# Altium schematic symbol library FPGA_Xilinx_Virtex5.SchLib: 41 symbols (part 16 of 17)
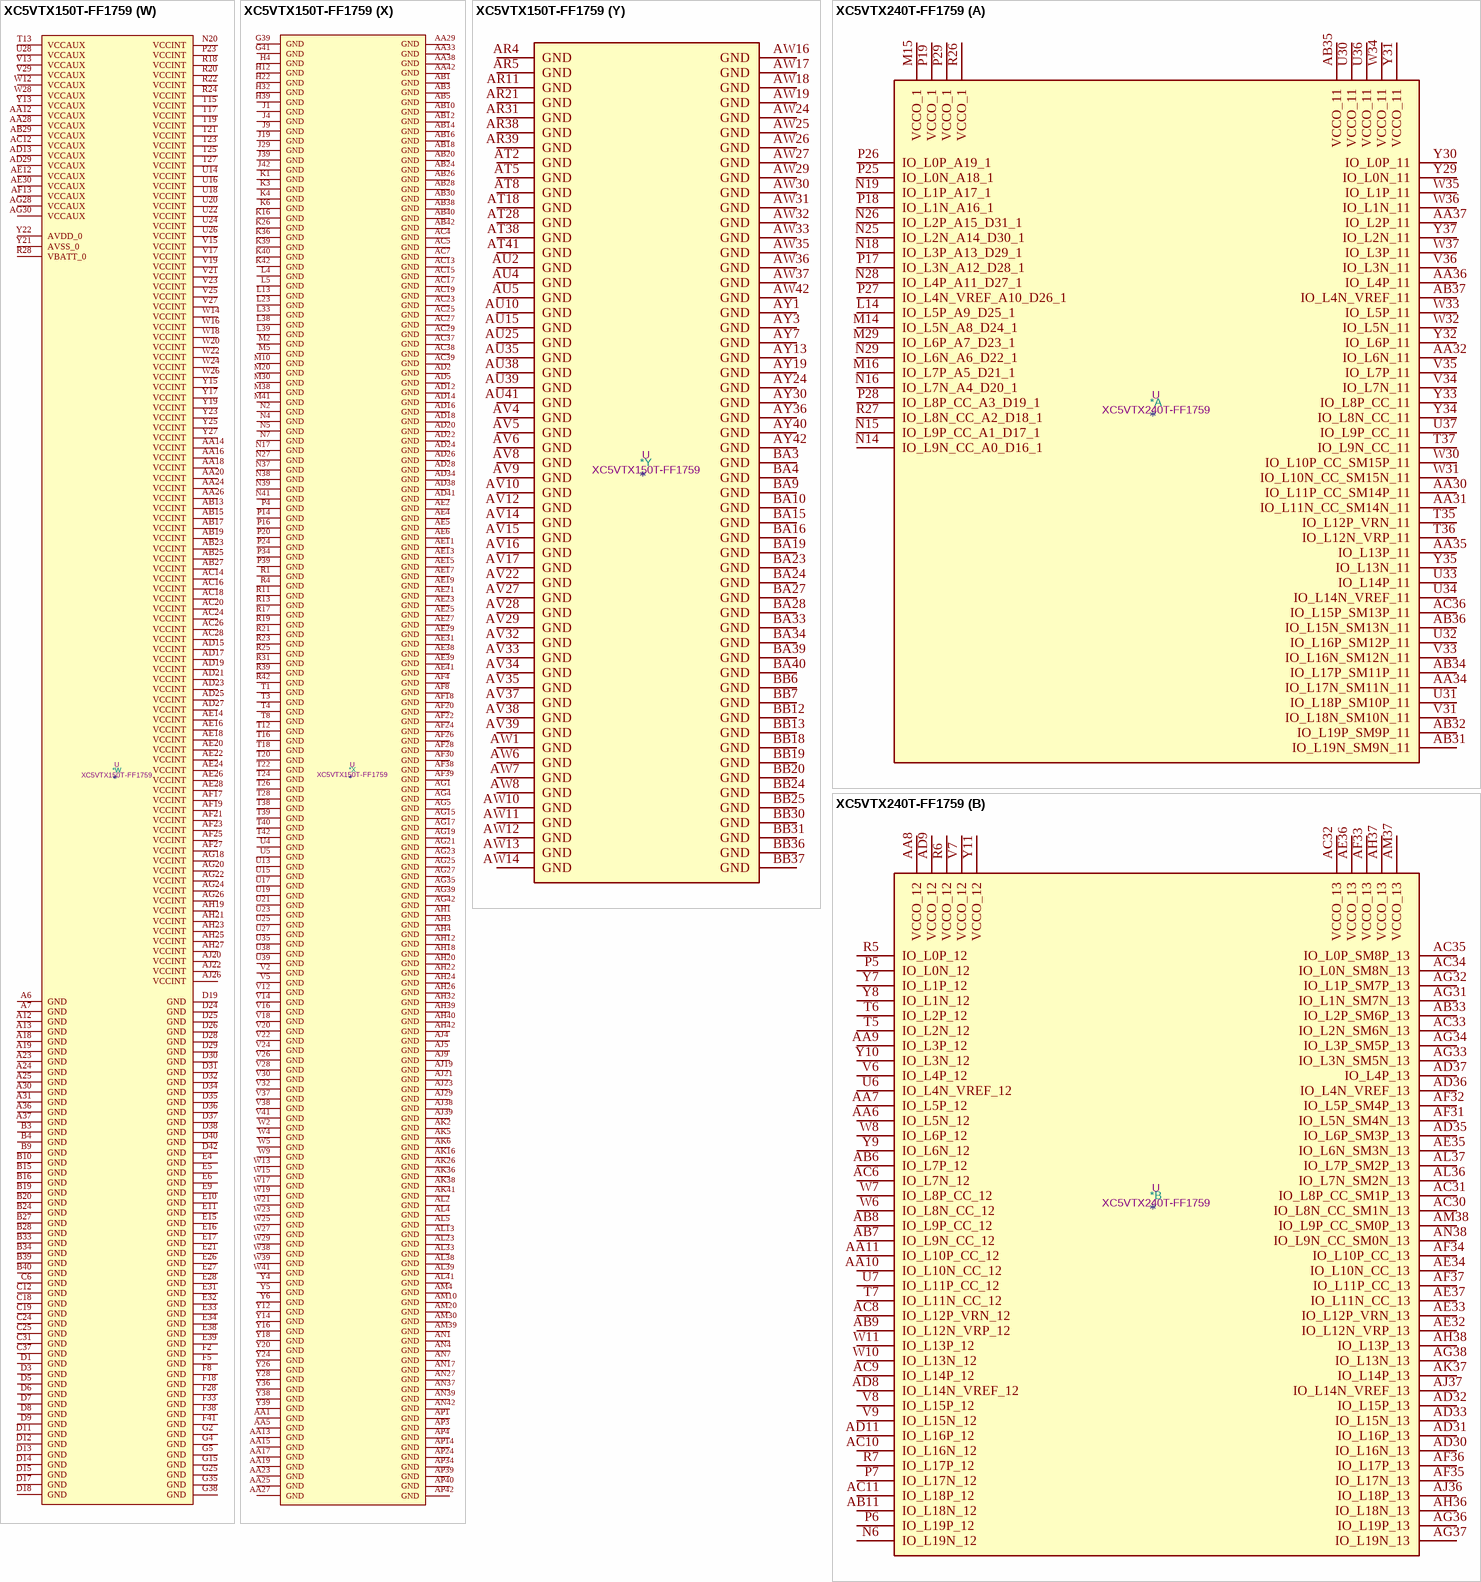
[diagram p152: symbols XC5VTX150T-FF1759 to XC5VTX240T-FF1759]

## XC5VTX150T-FF1759
designator *  value XC5VTX150T-FF1759  Reference: U
Virtex 5 TXT 150 XC5VTX150T-FF1759; ki_keywords: FPGA; Description_: Virtex 5 TXT 150 XC5VTX150T-FF1759
part A pins: AA30 IO_L11P_CC_SM14P_11, AA31 IO_L11N_CC_SM14N_11, AA32 IO_L6N_11, AA34 IO_L17N_SM11N_11, AA35 IO_L13P_11, AA36 IO_L4P_11, AA37 IO_L2P_11, AB31 IO_L19N_SM9N_11, AB32 IO_L19P_SM9P_11, AB34 IO_L17P_SM11P_11, AB35 VCCO_11, AB36 IO_L15N_SM13N_11, AB37 IO_L4N_VREF_11, AC36 IO_L15P_SM13P_11, L14 IO_L5P_A9_D25_1, M14 IO_L5N_A8_D24_1, M15 VCCO_1, M16 IO_L7P_A5_D21_1, M29 IO_L6P_A7_D23_1, N14 IO_L9N_CC_A0_D16_1, N15 IO_L9P_CC_A1_D17_1, N16 IO_L7N_A4_D20_1, N18 IO_L3P_A13_D29_1, N19 IO_L1P_A17_1, N25 IO_L2N_A14_D30_1, N26 IO_L2P_A15_D31_1, N28 IO_L4P_A11_D27_1, N29 IO_L6N_A6_D22_1, P17 IO_L3N_A12_D28_1, P18 IO_L1N_A16_1, P19 VCCO_1, P25 IO_L0N_A18_1, P26 IO_L0P_A19_1, P27 IO_L4N_VREF_A10_D26_1, P28 IO_L8P_CC_A3_D19_1, P29 VCCO_1, R26 VCCO_1, R27 IO_L8N_CC_A2_D18_1, T35 IO_L12P_VRN_11, T36 IO_L12N_VRP_11, T37 IO_L9N_CC_11, U30 VCCO_11, U31 IO_L18P_SM10P_11, U32 IO_L16P_SM12P_11, U33 IO_L14P_11, U34 IO_L14N_VREF_11, U36 VCCO_11, U37 IO_L9P_CC_11, V31 IO_L18N_SM10N_11, V33 IO_L16N_SM12N_11, V34 IO_L7N_11, V35 IO_L7P_11, V36 IO_L3N_11, W30 IO_L10P_CC_SM15P_11, W31 IO_L10N_CC_SM15N_11, W32 IO_L5N_11, W33 IO_L5P_11, W34 VCCO_11, W35 IO_L1P_11, W36 IO_L1N_11, W37 IO_L3P_11, Y29 IO_L0N_11, Y30 IO_L0P_11, Y31 VCCO_11, Y32 IO_L6P_11, Y33 IO_L8P_CC_11, Y34 IO_L8N_CC_11, Y35 IO_L13N_11, Y37 IO_L2N_11
part B pins: AA6 IO_L5N_12, AA7 IO_L5P_12, AA8 VCCO_12, AA9 IO_L3P_12, AA10 IO_L10N_CC_12, AA11 IO_L10P_CC_12, AB6 IO_L7P_12, AB7 IO_L9N_CC_12, AB8 IO_L9P_CC_12, AB9 IO_L12N_VRP_12, AB11 IO_L18N_12, AB33 IO_L2P_SM6P_13, AC6 IO_L7N_12, AC8 IO_L12P_VRN_12, AC9 IO_L14P_12, AC10 IO_L16N_12, AC11 IO_L18P_12, AC30 IO_L8N_CC_SM1N_13, AC31 IO_L8P_CC_SM1P_13, AC32 VCCO_13, AC33 IO_L2N_SM6N_13, AC34 IO_L0N_SM8N_13, AC35 IO_L0P_SM8P_13, AD8 IO_L14N_VREF_12, AD9 VCCO_12, AD11 IO_L16P_12, AD30 IO_L16N_13, AD31 IO_L16P_13, AD32 IO_L15P_13, AD33 IO_L15N_13, AD35 IO_L6P_SM3P_13, AD36 IO_L4N_VREF_13, AD37 IO_L4P_13, AE32 IO_L12N_VRP_13, AE33 IO_L12P_VRN_13, AE34 IO_L10N_CC_13, AE35 IO_L6N_SM3N_13, AE36 VCCO_13, AE37 IO_L11N_CC_13, AF31 IO_L5N_SM4N_13, AF32 IO_L5P_SM4P_13, AF33 VCCO_13, AF34 IO_L10P_CC_13, AF35 IO_L17N_13, AF36 IO_L17P_13, AF37 IO_L11P_CC_13, AG31 IO_L1N_SM7N_13, AG32 IO_L1P_SM7P_13, AG33 IO_L3N_SM5N_13, AG34 IO_L3P_SM5P_13, AG36 IO_L19P_13, AG37 IO_L19N_13, AG38 IO_L13N_13, AH36 IO_L18N_13, AH37 VCCO_13, AH38 IO_L13P_13, AJ36 IO_L18P_13, AJ37 IO_L14N_VREF_13, AK37 IO_L14P_13, AL36 IO_L7N_SM2N_13, AL37 IO_L7P_SM2P_13, AM37 VCCO_13, AM38 IO_L9P_CC_SM0P_13, AN38 IO_L9N_CC_SM0N_13, N6 IO_L19N_12, P5 IO_L0N_12, P6 IO_L19P_12, P7 IO_L17N_12, R5 IO_L0P_12, R6 VCCO_12, R7 IO_L17P_12, T5 IO_L2N_12, T6 IO_L2P_12, T7 IO_L11N_CC_12, U6 IO_L4N_VREF_12, U7 IO_L11P_CC_12, V6 IO_L4P_12, V7 VCCO_12, V8 IO_L15P_12, V9 IO_L15N_12, W6 IO_L8N_CC_12, W7 IO_L8P_CC_12, W8 IO_L6P_12, W10 IO_L13N_12, W11 IO_L13P_12, Y7 IO_L1P_12, Y8 IO_L1N_12, Y9 IO_L6N_12, Y10 IO_L3N_12, Y11 VCCO_12
part C pins: AD6 IO_L1N_14, AD7 IO_L1P_14, AD10 IO_L17P_14, AE7 VCCO_14, AE8 IO_L3P_14, AE9 IO_L16N_14, AE10 IO_L17N_14, AF5 IO_L5P_14, AF6 IO_L5N_14, AF7 IO_L3N_14, AF9 IO_L16P_14, AF10 IO_L8P_CC_14, AF11 IO_L2P_14, AF12 IO_L0N_14, AG6 IO_L7P_14, AG7 IO_L9P_CC_14, AG8 IO_L10P_CC_14, AG9 IO_L8N_CC_14, AG10 VCCO_14, AG11 IO_L2N_14, AG12 IO_L0P_14, AH5 IO_L7N_14, AH6 IO_L9N_CC_14, AH7 VCCO_14, AH8 IO_L10N_CC_14, AH9 IO_L13P_14, AH10 IO_L4N_VREF_14, AH11 IO_L4P_14, AH17 VCCO_2, AJ6 IO_L12P_VRN_14, AJ7 IO_L12N_VRP_14, AJ8 IO_L13N_14, AJ17 IO_L0P_CC_RS1_2, AJ18 IO_L2N_A22_2, AK7 IO_L14P_14, AK8 IO_L11P_CC_14, AK9 IO_L6P_14, AK17 IO_L0N_CC_RS0_2, AK18 IO_L2P_A23_2, AK19 IO_L8N_D2_FS2_2, AK27 IO_L1N_CC_A24_2, AK28 IO_L1P_CC_A25_2, AL6 IO_L14N_VREF_14, AL7 IO_L11N_CC_14, AL8 VCCO_14, AL9 IO_L6N_14, AL17 IO_L4P_FCS_B_2, AL18 VCCO_2, AL19 IO_L8P_D3_2, AL27 IO_L3P_A21_2, AL28 VCCO_2, AM5 IO_L18P_14, AM6 IO_L19P_14, AM7 IO_L19N_14, AM17 IO_L4N_VREF_FOE_B_MOSI_2, AM18 IO_L6P_D7_2, AM19 IO_L6N_D6_2, AM27 IO_L3N_A20_2, AN5 IO_L18N_14, AN6 VCCO_14, AN26 IO_L7N_D4_2, AP5 IO_L15P_14, AP6 IO_L15N_14, AP25 IO_L9P_D1_FS1_2, AP26 IO_L7P_D5_2, AP27 IO_L5N_CSO_B_2, AR25 IO_L9N_D0_FS0_2, AR26 VCCO_2, AR27 IO_L5P_FWE_B_2
part D pins: E7 IO_L3P_24, E8 IO_L3N_24, F6 IO_L5N_24, F7 VCCO_24, G6 IO_L5P_24, G7 IO_L1P_24, G8 IO_L1N_24, G37 IO_L4P_23, H5 IO_L7N_24, H6 IO_L7P_24, H7 VCCO_24, H8 IO_L9N_CC_24, H34 IO_L0N_23, H35 IO_L2P_23, H36 IO_L2N_23, H37 VCCO_23, H38 IO_L4N_VREF_23, J5 IO_L14N_VREF_24, J6 IO_L14P_24, J7 IO_L18P_24, J8 IO_L9P_CC_24, J33 IO_L0P_23, J34 VCCO_23, J35 IO_L15N_23, J36 IO_L15P_23, J37 IO_L8P_CC_23, J38 IO_L8N_CC_23, K5 IO_L4N_VREF_24, K7 IO_L19P_24, K8 IO_L18N_24, K9 IO_L12P_VRN_24, K33 IO_L6N_23, K34 IO_L6P_23, K35 IO_L19N_23, K37 IO_L17P_23, K38 IO_L17N_23, L6 IO_L4P_24, L7 IO_L19N_24, L8 VCCO_24, L9 IO_L12N_VRP_24, L34 IO_L19P_23, L35 IO_L12P_VRN_23, L36 IO_L12N_VRP_23, L37 IO_L16N_23, M6 IO_L17N_24, M7 IO_L17P_24, M8 IO_L15P_24, M9 IO_L16N_24, M34 IO_L14N_VREF_23, M35 VCCO_23, M36 IO_L10N_CC_23, M37 IO_L16P_23, N8 IO_L15N_24, N9 IO_L16P_24, N33 IO_L11N_CC_23, N34 IO_L14P_23, N35 IO_L7N_23, N36 IO_L10P_CC_23, P8 IO_L11N_CC_24, P9 VCCO_24, P10 IO_L10P_CC_24, P33 IO_L11P_CC_23, P35 IO_L7P_23, P36 IO_L5N_23, P37 IO_L1N_23, P38 IO_L3N_23, R8 IO_L8P_CC_24, R9 IO_L11P_CC_24, R10 IO_L10N_CC_24, R32 IO_L13N_23, R33 IO_L13P_23, R34 IO_L9P_CC_23, R35 IO_L5P_23, R36 VCCO_23, R37 IO_L1P_23, R38 IO_L3P_23, T9 IO_L8N_CC_24, T10 IO_L13N_24, T11 IO_L13P_24, T31 IO_L18P_23, T32 IO_L18N_23, T33 VCCO_23, T34 IO_L9N_CC_23, U8 IO_L6N_24, U9 IO_L6P_24, U10 VCCO_24, U11 IO_L2N_24, U12 IO_L0N_24, V10 IO_L2P_24, V11 IO_L0P_24
part E pins: AH33 IO_L10N_CC_25, AH34 IO_L10P_CC_25, AH35 IO_L12P_VRN_25, AJ10 IO_L4P_26, AJ11 IO_L4N_VREF_26, AJ12 IO_L9P_CC_26, AJ31 IO_L3P_25, AJ32 IO_L3N_25, AJ33 IO_L0P_25, AJ34 VCCO_25, AJ35 IO_L12N_VRP_25, AK10 IO_L2N_26, AK11 VCCO_26, AK12 IO_L9N_CC_26, AK32 IO_L13P_25, AK33 IO_L13N_25, AK34 IO_L0N_25, AK35 IO_L9N_CC_25, AL10 IO_L2P_26, AL11 IO_L7N_26, AL12 IO_L10N_CC_26, AL31 IO_L19P_25, AL32 IO_L19N_25, AL34 IO_L9P_CC_25, AL35 IO_L18P_25, AM8 IO_L17N_26, AM9 IO_L17P_26, AM11 IO_L7P_26, AM12 IO_L10P_CC_26, AM13 IO_L18P_26, AM31 IO_L17P_25, AM32 IO_L17N_25, AM33 IO_L8N_CC_25, AM34 IO_L6P_25, AM35 VCCO_25, AM36 IO_L18N_25, AN8 IO_L15N_26, AN9 IO_L6P_26, AN10 IO_L6N_26, AN11 IO_L3N_26, AN12 VCCO_26, AN13 IO_L18N_26, AN31 IO_L15P_25, AN32 VCCO_25, AN33 IO_L8P_CC_25, AN34 IO_L6N_25, AN35 IO_L16N_25, AN36 IO_L16P_25, AP7 IO_L19N_26, AP8 IO_L15P_26, AP9 VCCO_26, AP10 IO_L3P_26, AP11 IO_L5P_26, AP12 IO_L5N_26, AP13 IO_L16P_26, AP31 IO_L15N_25, AP32 IO_L11P_CC_25, AP33 IO_L11N_CC_25, AP35 IO_L7N_25, AP36 IO_L7P_25, AP37 IO_L14P_25, AP38 IO_L14N_VREF_25, AR6 IO_L19P_26, AR7 IO_L8P_CC_26, AR8 IO_L0P_26, AR9 IO_L0N_26, AR10 IO_L1P_26, AR12 IO_L16N_26, AR35 IO_L4P_25, AR36 VCCO_25, AR37 IO_L5N_25, AT6 IO_L13N_26, AT7 IO_L8N_CC_26, AT9 IO_L1N_26, AT10 IO_L12N_VRP_26, AT11 VCCO_26, AT35 IO_L4N_VREF_25, AT36 IO_L1P_25, AT37 IO_L5P_25, AU6 IO_L13P_26, AU7 VCCO_26, AU8 IO_L11P_CC_26, AU9 IO_L12P_VRN_26, AU11 IO_L14P_26, AU36 IO_L2N_25, AU37 IO_L1N_25, AV7 IO_L11N_CC_26, AV11 IO_L14N_VREF_26, AV36 IO_L2P_25
part F pins: E12 IO_L4P_28, E13 IO_L4N_VREF_28, E14 IO_L15P_28, E29 IO_L16P_27, E30 IO_L14N_VREF_27, E35 IO_L4N_VREF_27, E36 IO_L4P_27, E37 IO_L6P_27, F9 IO_L0N_28, F10 IO_L0P_28, F11 IO_L2N_28, F12 IO_L11N_CC_28, F13 VCCO_28, F14 IO_L15N_28, F15 IO_L17P_28, F29 IO_L16N_27, F30 IO_L14P_27, F31 IO_L12N_VRP_27, F32 IO_L5N_27, F34 IO_L3P_27, F35 IO_L2P_27, F36 VCCO_27, F37 IO_L6N_27, G9 IO_L3P_28, G10 VCCO_28, G11 IO_L2P_28, G12 IO_L11P_CC_28, G13 IO_L13N_28, G14 IO_L17N_28, G29 IO_L18P_27, G30 VCCO_27, G31 IO_L12P_VRN_27, G32 IO_L5P_27, G33 VCCO_27, G34 IO_L3N_27, G36 IO_L2N_27, H9 IO_L3N_28, H10 IO_L1N_28, H11 IO_L8P_CC_28, H13 IO_L13P_28, H14 IO_L19P_28, H15 IO_L19N_28, H29 IO_L18N_27, H30 IO_L10N_CC_27, H31 IO_L7P_27, H33 IO_L1N_27, J10 IO_L5P_28, J11 IO_L1P_28, J12 IO_L8N_CC_28, J13 IO_L6N_28, J30 IO_L10P_CC_27, J31 IO_L7N_27, J32 IO_L1P_27, K10 IO_L5N_28, K11 VCCO_28, K12 IO_L7N_28, K13 IO_L7P_28, K14 IO_L6P_28, K29 IO_L9P_CC_27, K30 IO_L0N_27, K31 VCCO_27, K32 IO_L8N_CC_27, L10 IO_L10P_CC_28, L11 IO_L10N_CC_28, L12 IO_L9P_CC_28, L29 IO_L9N_CC_27, L30 IO_L0P_27, L31 IO_L8P_CC_27, L32 IO_L11N_CC_27, M11 IO_L14P_28, M12 IO_L9N_CC_28, M13 IO_L12N_VRP_28, M31 IO_L13P_27, M32 IO_L13N_27, M33 IO_L11P_CC_27, N10 IO_L14N_VREF_28, N11 IO_L16N_28, N12 VCCO_28, N13 IO_L12P_VRN_28, N30 IO_L15N_27, N31 IO_L15P_27, N32 VCCO_27, P11 IO_L16P_28, P12 IO_L18P_28, P30 IO_L19P_27, P31 IO_L17P_27, P32 IO_L17N_27, R12 IO_L18N_28, R30 IO_L19N_27
part G pins: AH29 IO_L0N_29, AH30 IO_L0P_29, AH31 IO_L2P_29, AJ30 IO_L2N_29, AK29 IO_L4P_29, AK30 IO_L4N_VREF_29, AK31 VCCO_29, AL29 IO_L17P_29, AL30 IO_L17N_29, AM28 IO_L9P_CC_29, AM29 IO_L15P_29, AN28 IO_L1P_29, AN29 IO_L9N_CC_29, AN30 IO_L15N_29, AP28 IO_L1N_29, AP29 VCCO_29, AP30 IO_L12N_VRP_29, AR28 IO_L10P_CC_29, AR29 IO_L10N_CC_29, AR30 IO_L12P_VRN_29, AR32 IO_L13P_29, AR33 IO_L8N_CC_29, AR34 IO_L8P_CC_29, AT25 IO_L3N_29, AT26 IO_L3P_29, AT27 IO_L7N_29, AT29 IO_L14P_29, AT30 IO_L19P_29, AT31 IO_L19N_29, AT32 IO_L13N_29, AT33 VCCO_29, AT34 IO_L6N_29, AU26 VCCO_29, AU27 IO_L7P_29, AU28 IO_L14N_VREF_29, AU29 IO_L16P_29, AU30 VCCO_29, AU31 IO_L18N_29, AU32 IO_L11P_CC_29, AU33 IO_L11N_CC_29, AU34 IO_L6P_29, AV25 IO_L5N_29, AV26 IO_L5P_29, AV30 IO_L16N_29, AV31 IO_L18P_29, J14 VCCO_3, J15 IO_L2P_GC_VRN_3, J16 IO_L2N_GC_VRP_3, K15 IO_L4N_GC_VREF_3, K27 IO_L7P_GC_3, K28 IO_L7N_GC_3, L15 IO_L4P_GC_3, L16 IO_L8P_GC_3, L17 IO_L8N_GC_3, L18 VCCO_3, L19 IO_L0P_CC_GC_3, L25 IO_L3N_GC_3, L26 IO_L5P_GC_3, L27 IO_L5N_GC_3, L28 VCCO_3, M17 IO_L6P_GC_3, M18 IO_L6N_GC_3, M19 IO_L0N_CC_GC_3, M24 IO_L1N_CC_GC_3, M25 VCCO_3, M26 IO_L3P_GC_3, M27 IO_L9N_GC_3, M28 IO_L9P_GC_3, N24 IO_L1P_CC_GC_3
part H pins: AG13 IO_L3N_30, AH13 IO_L5P_30, AH14 IO_L3P_30, AH15 IO_L1N_30, AJ13 IO_L5N_30, AJ14 VCCO_30, AJ15 IO_L1P_30, AJ24 VCCO_4, AJ25 IO_L4P_GC_4, AK13 IO_L7P_30, AK14 IO_L7N_30, AK15 IO_L19P_30, AK20 IO_L9P_CC_GC_4, AK21 VCCO_4, AK23 IO_L8P_CC_GC_4, AK24 IO_L8N_CC_GC_4, AK25 IO_L4N_GC_VREF_4, AL14 IO_L16N_30, AL15 IO_L19N_30, AL16 IO_L4P_30, AL20 IO_L9N_CC_GC_4, AL21 IO_L7P_GC_VRN_4, AL24 IO_L6N_GC_4, AL25 IO_L6P_GC_4, AL26 IO_L0P_GC_D15_4, AM14 IO_L16P_30, AM15 VCCO_30, AM16 IO_L4N_VREF_30, AM21 IO_L7N_GC_VRP_4, AM24 IO_L2N_GC_D10_4, AM25 VCCO_4, AM26 IO_L0N_GC_D14_4, AN14 IO_L10P_CC_30, AN15 IO_L10N_CC_30, AN16 IO_L11P_CC_30, AN18 IO_L2P_30, AN19 IO_L1N_GC_D12_4, AN20 IO_L1P_GC_D13_4, AN25 IO_L2P_GC_D11_4, AP15 IO_L14P_30, AP16 IO_L15N_30, AP17 IO_L11N_CC_30, AP18 IO_L2N_30, AP19 VCCO_4, AP20 IO_L5N_GC_4, AP21 IO_L5P_GC_4, AR13 IO_L9N_CC_30, AR14 IO_L14N_VREF_30, AR15 IO_L15P_30, AR16 VCCO_30, AR17 IO_L8N_CC_30, AR18 IO_L0N_30, AR19 IO_L0P_30, AR20 IO_L3P_GC_D9_4, AT12 IO_L9P_CC_30, AT13 VCCO_30, AT14 IO_L12N_VRP_30, AT15 IO_L17N_30, AT16 IO_L13P_30, AT17 IO_L8P_CC_30, AT20 IO_L3N_GC_D8_4, AU12 IO_L18P_30, AU13 IO_L12P_VRN_30, AU14 IO_L17P_30, AU16 IO_L13N_30, AU17 IO_L6N_30, AU18 IO_L6P_30, AV13 IO_L18N_30
part I pins: AK22 IO_L12N_VRP_6, AL22 IO_L12P_VRN_6, AM22 IO_L10N_CC_6, AM23 IO_L8P_CC_6, AN21 IO_L10P_CC_6, AN22 VCCO_6, AN23 IO_L13P_6, AN24 IO_L8N_CC_6, AP22 IO_L17N_6, AP23 IO_L13N_6, AR22 IO_L17P_6, AR23 IO_L15P_6, AR24 IO_L0P_6, AT19 IO_L7P_6, AT21 IO_L19N_6, AT22 IO_L15N_6, AT23 VCCO_6, AT24 IO_L0N_6, AU19 IO_L7N_6, AU20 VCCO_6, AU21 IO_L19P_6, AU22 IO_L18N_6, AU23 IO_L6N_6, AU24 IO_L2N_6, AV18 IO_L1P_6, AV19 IO_L1N_6, AV20 IO_L9P_CC_6, AV21 IO_L18P_6, AV23 IO_L6P_6, AV24 IO_L2P_6, AW20 IO_L9N_CC_6, AW21 IO_L16P_6, AW22 IO_L16N_6, AW23 IO_L11P_CC_6, AY20 IO_L14N_VREF_6, AY21 VCCO_6, AY22 IO_L5N_6, AY23 IO_L11N_CC_6, BA20 IO_L14P_6, BA21 IO_L5P_6, BA22 IO_L3P_6, BB21 IO_L3N_6, BB22 IO_L4P_6, BB23 IO_L4N_VREF_6, E18 IO_L14N_VREF_5, E19 IO_L14P_5, E20 IO_L1P_5, F16 IO_L16N_5, F17 IO_L16P_5, F19 IO_L5P_5, F20 IO_L1N_5, F26 IO_L8P_CC_5, F27 IO_L13N_5, G16 IO_L18N_5, G17 IO_L7N_5, G18 IO_L7P_5, G19 IO_L5N_5, G20 VCCO_5, G24 IO_L6P_5, G26 IO_L8N_CC_5, G27 IO_L13P_5, G28 IO_L17N_5, H16 IO_L18P_5, H17 VCCO_5, H18 IO_L12N_VRP_5, H19 IO_L3N_5, H20 IO_L3P_5, H23 IO_L4P_5, H24 IO_L4N_VREF_5, H25 IO_L6N_5, H26 IO_L15N_5, H27 VCCO_5, H28 IO_L17P_5, J17 IO_L9P_CC_5, J18 IO_L12P_VRN_5, J23 IO_L0N_5, J24 VCCO_5, J25 IO_L11N_CC_5, J26 IO_L15P_5, J27 IO_L19N_5, J28 IO_L19P_5, K17 IO_L9N_CC_5, K18 IO_L10P_CC_5, K19 IO_L10N_CC_5, K23 IO_L0P_5, K24 IO_L2P_5, K25 IO_L11P_CC_5, L24 IO_L2N_5
part J pins: A20 IO_L14P_7, A21 IO_L14N_VREF_7, A22 IO_L11N_CC_7, B21 IO_L11P_CC_7, B22 IO_L8P_CC_7, B23 IO_L8N_CC_7, C20 IO_L12N_VRP_7, C21 IO_L6P_7, C22 VCCO_7, C23 IO_L4N_VREF_7, D20 IO_L12P_VRN_7, D21 IO_L6N_7, D22 IO_L4P_7, D23 IO_L3P_7, E22 IO_L3N_7, E23 IO_L17N_7, E24 IO_L17P_7, E25 IO_L19N_7, F21 IO_L9P_CC_7, F22 IO_L5P_7, F23 VCCO_7, F24 IO_L13N_7, F25 IO_L19P_7, G21 IO_L9N_CC_7, G22 IO_L5N_7, G23 IO_L13P_7, H21 IO_L10N_CC_7, J20 IO_L10P_CC_7, J21 IO_L0N_7, J22 IO_L0P_7, K20 IO_L16N_7, K21 VCCO_7, K22 IO_L7P_7, L20 IO_L16P_7, L21 IO_L7N_7, L22 IO_L2N_7, M21 IO_L1N_7, M22 IO_L2P_7, M23 IO_L15P_7, N21 IO_L1P_7, N22 VCCO_7, N23 IO_L15N_7, P21 IO_L18P_7, P22 IO_L18N_7
part K pins: AA2 MGTTXP1_112, AA41 MGTTXP1_111, T2 MGTTXP0_112, T41 MGTTXP0_111, U1 MGTRXP0_112, U2 MGTTXN0_112, U41 MGTTXN0_111, U42 MGTRXP0_111, V1 MGTRXN0_112, V3 MGTREFCLKN_112, V4 MGTREFCLKP_112, V39 MGTREFCLKP_111, V40 MGTREFCLKN_111, V42 MGTRXN0_111, W1 MGTRXN1_112, W42 MGTRXN1_111, Y1 MGTRXP1_112, Y2 MGTTXN1_112, Y41 MGTTXN1_111, Y42 MGTRXP1_111
part L pins: AB2 MGTTXP0_114, AB41 MGTTXP0_113, AC1 MGTRXP0_114, AC2 MGTTXN0_114, AC41 MGTTXN0_113, AC42 MGTRXP0_113, AD1 MGTRXN0_114, AD3 MGTREFCLKN_114, AD4 MGTREFCLKP_114, AD39 MGTREFCLKP_113, AD40 MGTREFCLKN_113, AD42 MGTRXN0_113, AE1 MGTRXN1_114, AE42 MGTRXN1_113, AF1 MGTRXP1_114, AF2 MGTTXN1_114, AF41 MGTTXN1_113, AF42 MGTRXP1_113, AG2 MGTTXP1_114, AG41 MGTTXP1_113
part M pins: K2 MGTTXP0_116, K41 MGTTXP0_115, L1 MGTRXP0_116, L2 MGTTXN0_116, L41 MGTTXN0_115, L42 MGTRXP0_115, M1 MGTRXN0_116, M3 MGTREFCLKN_116, M4 MGTREFCLKP_116, M39 MGTREFCLKP_115, M40 MGTREFCLKN_115, M42 MGTRXN0_115, N1 MGTRXN1_116, N42 MGTRXN1_115, P1 MGTRXP1_116, P2 MGTTXN1_116, P41 MGTTXN1_115, P42 MGTRXP1_115, R2 MGTTXP1_116, R41 MGTTXP1_115
part N pins: AH2 MGTTXP0_118, AH41 MGTTXP0_117, AJ1 MGTRXP0_118, AJ2 MGTTXN0_118, AJ41 MGTTXN0_117, AJ42 MGTRXP0_117, AK1 MGTRXN0_118, AK3 MGTREFCLKN_118, AK4 MGTREFCLKP_118, AK39 MGTREFCLKP_117, AK40 MGTREFCLKN_117, AK42 MGTRXN0_117, AL1 MGTRXN1_118, AL42 MGTRXN1_117, AM1 MGTRXP1_118, AM2 MGTTXN1_118, AM41 MGTTXN1_117, AM42 MGTRXP1_117, AN2 MGTTXP1_118, AN41 MGTTXP1_117
part O pins: D2 MGTTXP0_120, D41 MGTTXP0_119, E1 MGTRXP0_120, E2 MGTTXN0_120, E41 MGTTXN0_119, E42 MGTRXP0_119, F1 MGTRXN0_120, F3 MGTREFCLKN_120, F4 MGTREFCLKP_120, F39 MGTREFCLKP_119, F40 MGTREFCLKN_119, F42 MGTRXN0_119, G1 MGTRXN1_120, G42 MGTRXN1_119, H1 MGTRXP1_120, H2 MGTTXN1_120, H41 MGTTXN1_119, H42 MGTRXP1_119, J2 MGTTXP1_120, J41 MGTTXP1_119
part P pins: AP2 MGTTXP0_122, AP41 MGTTXP0_121, AR1 MGTRXP0_122, AR2 MGTTXN0_122, AR41 MGTTXN0_121, AR42 MGTRXP0_121, AT1 MGTRXN0_122, AT3 MGTREFCLKN_122, AT4 MGTREFCLKP_122, AT39 MGTREFCLKP_121, AT40 MGTREFCLKN_121, AT42 MGTRXN0_121, AU1 MGTRXN1_122, AU42 MGTRXN1_121, AV1 MGTRXP1_122, AV2 MGTTXN1_122, AV41 MGTTXN1_121, AV42 MGTRXP1_121, AW2 MGTTXP1_122, AW41 MGTTXP1_121
part Q pins: A2 MGTRXP1_124, A3 MGTRXN1_124, A4 MGTRXN0_124, A5 MGTRXP0_124, A38 MGTRXP0_123, A39 MGTRXN0_123, A40 MGTRXN1_123, A41 MGTRXP1_123, B1 MGTTXP1_124, B2 MGTTXN1_124, B5 MGTTXN0_124, B6 MGTTXP0_124, B37 MGTTXP0_123, B38 MGTTXN0_123, B41 MGTTXN1_123, B42 MGTTXP1_123, C3 MGTREFCLKN_124, C4 MGTREFCLKP_124, C39 MGTREFCLKP_123, C40 MGTREFCLKN_123
part R pins: AW4 MGTREFCLKP_126, AW39 MGTREFCLKP_125, AY4 MGTREFCLKN_126, AY39 MGTREFCLKN_125, BA1 MGTTXP0_126, BA2 MGTTXN0_126, BA5 MGTTXN1_126, BA6 MGTTXP1_126, BA37 MGTTXP1_125, BA38 MGTTXN1_125, BA41 MGTTXN0_125, BA42 MGTTXP0_125, BB2 MGTRXP0_126, BB3 MGTRXN0_126, BB4 MGTRXN1_126, BB5 MGTRXP1_126, BB38 MGTRXP1_125, BB39 MGTRXN1_125, BB40 MGTRXN0_125, BB41 MGTRXP0_125
part S pins: A8 MGTRXP1_128, A9 MGTRXN1_128, A10 MGTRXN0_128, A11 MGTRXP0_128, A32 MGTRXP0_127, A33 MGTRXN0_127, A34 MGTRXN1_127, A35 MGTRXP1_127, B7 MGTTXP1_128, B8 MGTTXN1_128, B11 MGTTXN0_128, B12 MGTTXP0_128, B31 MGTTXP0_127, B32 MGTTXN0_127, B35 MGTTXN1_127, B36 MGTTXP1_127, C10 MGTREFCLKN_128, C33 MGTREFCLKN_127, D10 MGTREFCLKP_128, D33 MGTREFCLKP_127
part T pins: AW9 MGTREFCLKP_130, AW34 MGTREFCLKP_129, AY9 MGTREFCLKN_130, AY34 MGTREFCLKN_129, BA7 MGTTXP0_130, BA8 MGTTXN0_130, BA11 MGTTXN1_130, BA12 MGTTXP1_130, BA31 MGTTXP1_129, BA32 MGTTXN1_129, BA35 MGTTXN0_129, BA36 MGTTXP0_129, BB8 MGTRXP0_130, BB9 MGTRXN0_130, BB10 MGTRXN1_130, BB11 MGTRXP1_130, BB32 MGTRXP1_129, BB33 MGTRXN1_129, BB34 MGTRXN0_129, BB35 MGTRXP0_129
part U pins: AA3 MGTAVTTTX_112, AA4 MGTAVTTRXC_R, AA39 MGTAVTTRXC_L, AA40 MGTAVTTTX_111, AB4 MGTRREF_112, AB39 MGTRREF_111, AC3 MGTAVTTRX_114, AC40 MGTAVTTRX_113, AE3 MGTAVCC_114, AE40 MGTAVCC_113, AF3 MGTAVCCPLL_114, AF40 MGTAVCCPLL_113, AG3 MGTAVTTTX_114, AG40 MGTAVTTTX_113, AJ3 MGTAVTTRX_118, AJ40 MGTAVTTRX_117, AL3 MGTAVCC_118, AL40 MGTAVCC_117, AM3 MGTAVCCPLL_118, AM40 MGTAVCCPLL_117, AN3 MGTAVTTTX_118, AN40 MGTAVTTTX_117, AR3 MGTAVTTRX_122, AR40 MGTAVTTRX_121, AU3 MGTAVCC_122, AU40 MGTAVCC_121, AV3 MGTAVCCPLL_122, AV40 MGTAVCCPLL_121, AW3 MGTAVTTTX_122, AW5 MGTAVCC_126, AW38 MGTAVCC_125, AW40 MGTAVTTTX_121, AY2 MGTAVTTRX_126, AY5 MGTAVCCPLL_126, AY6 MGTAVTTTX_126, AY8 MGTAVTTRX_130, AY10 MGTAVCC_130, AY11 MGTAVCCPLL_130, AY12 MGTAVTTTX_130, AY31 MGTAVTTTX_129, AY32 MGTAVCCPLL_129, AY33 MGTAVCC_129, AY35 MGTAVTTRX_129, AY37 MGTAVTTTX_125, AY38 MGTAVCCPLL_125, AY41 MGTAVTTRX_125, C1 MGTAVTTTX_124, C2 MGTAVCCPLL_124, C5 MGTAVTTRX_124, C7 MGTAVTTTX_128, C8 MGTAVCCPLL_128, C9 MGTAVCC_128, C11 MGTAVTTRX_128, C32 MGTAVTTRX_127, C34 MGTAVCC_127, C35 MGTAVCCPLL_127, C36 MGTAVTTTX_127, C38 MGTAVTTRX_123, C41 MGTAVCCPLL_123, C42 MGTAVTTTX_123, D4 MGTAVCC_124, D39 MGTAVCC_123, E3 MGTAVTTRX_120, E40 MGTAVTTRX_119, G3 MGTAVCC_120, G40 MGTAVCC_119, H3 MGTAVCCPLL_120, H40 MGTAVCCPLL_119, J3 MGTAVTTTX_120, J40 MGTAVTTTX_119, L3 MGTAVTTRX_116, L40 MGTAVTTRX_115, N3 MGTAVCC_116, N40 MGTAVCC_115, P3 MGTAVCCPLL_116, P40 MGTAVCCPLL_115, R3 MGTAVTTTX_116, R40 MGTAVTTTX_115, U3 MGTAVTTRX_112, U40 MGTAVTTRX_111, W3 MGTAVCC_112, W40 MGTAVCC_111, Y3 MGTAVCCPLL_112, Y40 MGTAVCCPLL_111
part V pins: AA21 VREFN_0, AA22 VP_0, AB21 VN_0, AB22 VREFP_0, AC21 DXN_0, AC22 DXP_0, AF15 TMS_0, AF16 TCK_0, AG16 TDI_0, AG29 D_OUT_BUSY_0, AH16 TDO_0, AH28 M2_0, AJ16 CCLK_0, AJ27 M1_0, AJ28 M0_0, P13 VCCO_0, P15 RDWR_B_0, R14 DONE_0, R15 D_IN_0, R16 VCCO_0, R29 PROGRAM_B_0, T14 INIT_B_0, T29 HSWAPEN_0, T30 CS_B_0
part W pins: A6 GND, A7 GND, A12 GND, A13 GND, A18 GND, A19 GND, A23 GND, A24 GND, A25 GND, A30 GND, A31 GND, A36 GND, A37 GND, AA12 VCCAUX, AA14 VCCINT, AA16 VCCINT, AA18 VCCINT, AA20 VCCINT, AA24 VCCINT, AA26 VCCINT, AA28 VCCAUX, AB13 VCCINT, AB15 VCCINT, AB17 VCCINT, AB19 VCCINT, AB23 VCCINT, AB25 VCCINT, AB27 VCCINT, AB29 VCCAUX, AC12 VCCAUX, AC14 VCCINT, AC16 VCCINT, AC18 VCCINT, AC20 VCCINT, AC24 VCCINT, AC26 VCCINT, AC28 VCCINT, AD13 VCCAUX, AD15 VCCINT, AD17 VCCINT, AD19 VCCINT, AD21 VCCINT, AD23 VCCINT, AD25 VCCINT, AD27 VCCINT, AD29 VCCAUX, AE12 VCCAUX, AE14 VCCINT, AE16 VCCINT, AE18 VCCINT, AE20 VCCINT, AE22 VCCINT, AE24 VCCINT, AE26 VCCINT, AE28 VCCINT, AE30 VCCAUX, AF13 VCCAUX, AF17 VCCINT, AF19 VCCINT, AF21 VCCINT, AF23 VCCINT, AF25 VCCINT, AF27 VCCINT, AG18 VCCINT, AG20 VCCINT, AG22 VCCINT, AG24 VCCINT, AG26 VCCINT, AG28 VCCAUX, AG30 VCCAUX, AH19 VCCINT, AH21 VCCINT, AH23 VCCINT, AH25 VCCINT, AH27 VCCINT, AJ20 VCCINT, AJ22 VCCINT, AJ26 VCCINT, B3 GND, B4 GND, B9 GND, B10 GND, B15 GND, B16 GND, B19 GND, B20 GND, B24 GND, B27 GND, B28 GND, B33 GND, B34 GND, B39 GND, B40 GND, C6 GND, C12 GND, C18 GND, C19 GND, C24 GND, C25 GND, C31 GND, C37 GND, D1 GND, D3 GND, D5 GND, D6 GND, D7 GND, D8 GND, D9 GND, D11 GND, D12 GND, D13 GND, D14 GND, D15 GND, D17 GND, D18 GND, D19 GND, D24 GND, D25 GND, D26 GND, D28 GND, D29 GND, D30 GND, D31 GND, D32 GND, D34 GND, D35 GND, D36 GND, D37 GND, D38 GND, D40 GND, D42 GND, E4 GND, E5 GND, E6 GND, E9 GND, E10 GND, E11 GND, E15 GND, E16 GND, E17 GND, E21 GND, E26 GND, E27 GND, E28 GND, E31 GND, E32 GND, E33 GND, E34 GND, E38 GND, E39 GND, F2 GND, F5 GND, F8 GND, F18 GND, F28 GND, F33 GND, F38 GND, F41 GND, G2 GND, G4 GND, G5 GND, G15 GND, G25 GND, G35 GND, G38 GND, N20 VCCINT, P23 VCCINT, R18 VCCINT, R20 VCCINT, R22 VCCINT, R24 VCCINT, R28 VBATT_0, T13 VCCAUX, T15 VCCINT, T17 VCCINT, T19 VCCINT, T21 VCCINT, T23 VCCINT, T25 VCCINT, T27 VCCINT, U14 VCCINT, U16 VCCINT, U18 VCCINT, U20 VCCINT, U22 VCCINT, U24 VCCINT, U26 VCCINT, U28 VCCAUX, V13 VCCAUX, V15 VCCINT, V17 VCCINT, V19 VCCINT, V21 VCCINT, V23 VCCINT, V25 VCCINT, V27 VCCINT, V29 VCCAUX, W12 VCCAUX, W14 VCCINT, W16 VCCINT, W18 VCCINT, W20 VCCINT, W22 VCCINT, W24 VCCINT, W26 VCCINT, W28 VCCAUX, Y13 VCCAUX, Y15 VCCINT, Y17 VCCINT, Y19 VCCINT, Y21 AVSS_0, Y22 AVDD_0, Y23 VCCINT, Y25 VCCINT, Y27 VCCINT
part X pins: AA1 GND, AA5 GND, AA13 GND, AA15 GND, AA17 GND, AA19 GND, AA23 GND, AA25 GND, AA27 GND, AA29 GND, AA33 GND, AA38 GND, AA42 GND, AB1 GND, AB3 GND, AB5 GND, AB10 GND, AB12 GND, AB14 GND, AB16 GND, AB18 GND, AB20 GND, AB24 GND, AB26 GND, AB28 GND, AB30 GND, AB38 GND, AB40 GND, AB42 GND, AC4 GND, AC5 GND, AC7 GND, AC13 GND, AC15 GND, AC17 GND, AC19 GND, AC23 GND, AC25 GND, AC27 GND, AC29 GND, AC37 GND, AC38 GND, AC39 GND, AD2 GND, AD5 GND, AD12 GND, AD14 GND, AD16 GND, AD18 GND, AD20 GND, AD22 GND, AD24 GND, AD26 GND, AD28 GND, AD34 GND, AD38 GND, AD41 GND, AE2 GND, AE4 GND, AE5 GND, AE6 GND, AE11 GND, AE13 GND, AE15 GND, AE17 GND, AE19 GND, AE21 GND, AE23 GND, AE25 GND, AE27 GND, AE29 GND, AE31 GND, AE38 GND, AE39 GND, AE41 GND, AF4 GND, AF8 GND, AF18 GND, AF20 GND, AF22 GND, AF24 GND, AF26 GND, AF28 GND, AF30 GND, AF38 GND, AF39 GND, AG1 GND, AG4 GND, AG5 GND, AG15 GND, AG17 GND, AG19 GND, AG21 GND, AG23 GND, AG25 GND, AG27 GND, AG35 GND, AG39 GND, AG42 GND, AH1 GND, AH3 GND, AH4 GND, AH12 GND, AH18 GND, AH20 GND, AH22 GND, AH24 GND, AH26 GND, AH32 GND, AH39 GND, AH40 GND, AH42 GND, AJ4 GND, AJ5 GND, AJ9 GND, AJ19 GND, AJ21 GND, AJ23 GND, AJ29 GND, AJ38 GND, AJ39 GND, AK2 GND, AK5 GND, AK6 GND, AK16 GND, AK26 GND, AK36 GND, AK38 GND, AK41 GND, AL2 GND, AL4 GND, AL5 GND, AL13 GND, AL23 GND, AL33 GND, AL38 GND, AL39 GND, AL41 GND, AM4 GND, AM10 GND, AM20 GND, AM30 GND, AM39 GND, AN1 GND, AN4 GND, AN7 GND, AN17 GND, AN27 GND, AN37 GND, AN39 GND, AN42 GND, AP1 GND, AP3 GND, AP4 GND, AP14 GND, AP24 GND, AP34 GND, AP39 GND, AP40 GND, AP42 GND, G39 GND, G41 GND, H4 GND, H12 GND, H22 GND, H32 GND, H39 GND, J1 GND, J4 GND, J9 GND, J19 GND, J29 GND, J39 GND, J42 GND, K1 GND, K3 GND, K4 GND, K6 GND, K16 GND, K26 GND, K36 GND, K39 GND, K40 GND, K42 GND, L4 GND, L5 GND, L13 GND, L23 GND, L33 GND, L38 GND, L39 GND, M2 GND, M5 GND, M10 GND, M20 GND, M30 GND, M38 GND, M41 GND, N2 GND, N4 GND, N5 GND, N7 GND, N17 GND, N27 GND, N37 GND, N38 GND, N39 GND, N41 GND, P4 GND, P14 GND, P16 GND, P20 GND, P24 GND, P34 GND, P39 GND, R1 GND, R4 GND, R11 GND, R13 GND, R17 GND, R19 GND, R21 GND, R23 GND, R25 GND, R31 GND, R39 GND, R42 GND, T1 GND, T3 GND, T4 GND, T8 GND, T12 GND, T16 GND, T18 GND, T20 GND, T22 GND, T24 GND, T26 GND, T28 GND, T38 GND, T39 GND, T40 GND, T42 GND, U4 GND, U5 GND, U13 GND, U15 GND, U17 GND, U19 GND, U21 GND, U23 GND, U25 GND, U27 GND, U35 GND, U38 GND, U39 GND, V2 GND, V5 GND, V12 GND, V14 GND, V16 GND, V18 GND, V20 GND, V22 GND, V24 GND, V26 GND, V28 GND, V30 GND, V32 GND, V37 GND, V38 GND, V41 GND, W2 GND, W4 GND, W5 GND, W9 GND, W13 GND, W15 GND, W17 GND, W19 GND, W21 GND, W23 GND, W25 GND, W27 GND, W29 GND, W38 GND, W39 GND, W41 GND, Y4 GND, Y5 GND, Y6 GND, Y12 GND, Y14 GND, Y16 GND, Y18 GND, Y20 GND, Y24 GND, Y26 GND, Y28 GND, Y36 GND, Y38 GND, Y39 GND
part Y pins: AR4 GND, AR5 GND, AR11 GND, AR21 GND, AR31 GND, AR38 GND, AR39 GND, AT2 GND, AT5 GND, AT8 GND, AT18 GND, AT28 GND, AT38 GND, AT41 GND, AU2 GND, AU4 GND, AU5 GND, AU10 GND, AU15 GND, AU25 GND, AU35 GND, AU38 GND, AU39 GND, AU41 GND, AV4 GND, AV5 GND, AV6 GND, AV8 GND, AV9 GND, AV10 GND, AV12 GND, AV14 GND, AV15 GND, AV16 GND, AV17 GND, AV22 GND, AV27 GND, AV28 GND, AV29 GND, AV32 GND, AV33 GND, AV34 GND, AV35 GND, AV37 GND, AV38 GND, AV39 GND, AW1 GND, AW6 GND, AW7 GND, AW8 GND, AW10 GND, AW11 GND, AW12 GND, AW13 GND, AW14 GND, AW16 GND, AW17 GND, AW18 GND, AW19 GND, AW24 GND, AW25 GND, AW26 GND, AW27 GND, AW29 GND, AW30 GND, AW31 GND, AW32 GND, AW33 GND, AW35 GND, AW36 GND, AW37 GND, AW42 GND, AY1 GND, AY3 GND, AY7 GND, AY13 GND, AY19 GND, AY24 GND, AY30 GND, AY36 GND, AY40 GND, AY42 GND, BA3 GND, BA4 GND, BA9 GND, BA10 GND, BA15 GND, BA16 GND, BA19 GND, BA23 GND, BA24 GND, BA27 GND, BA28 GND, BA33 GND, BA34 GND, BA39 GND, BA40 GND, BB6 GND, BB7 GND, BB12 GND, BB13 GND, BB18 GND, BB19 GND, BB20 GND, BB24 GND, BB25 GND, BB30 GND, BB31 GND, BB36 GND, BB37 GND

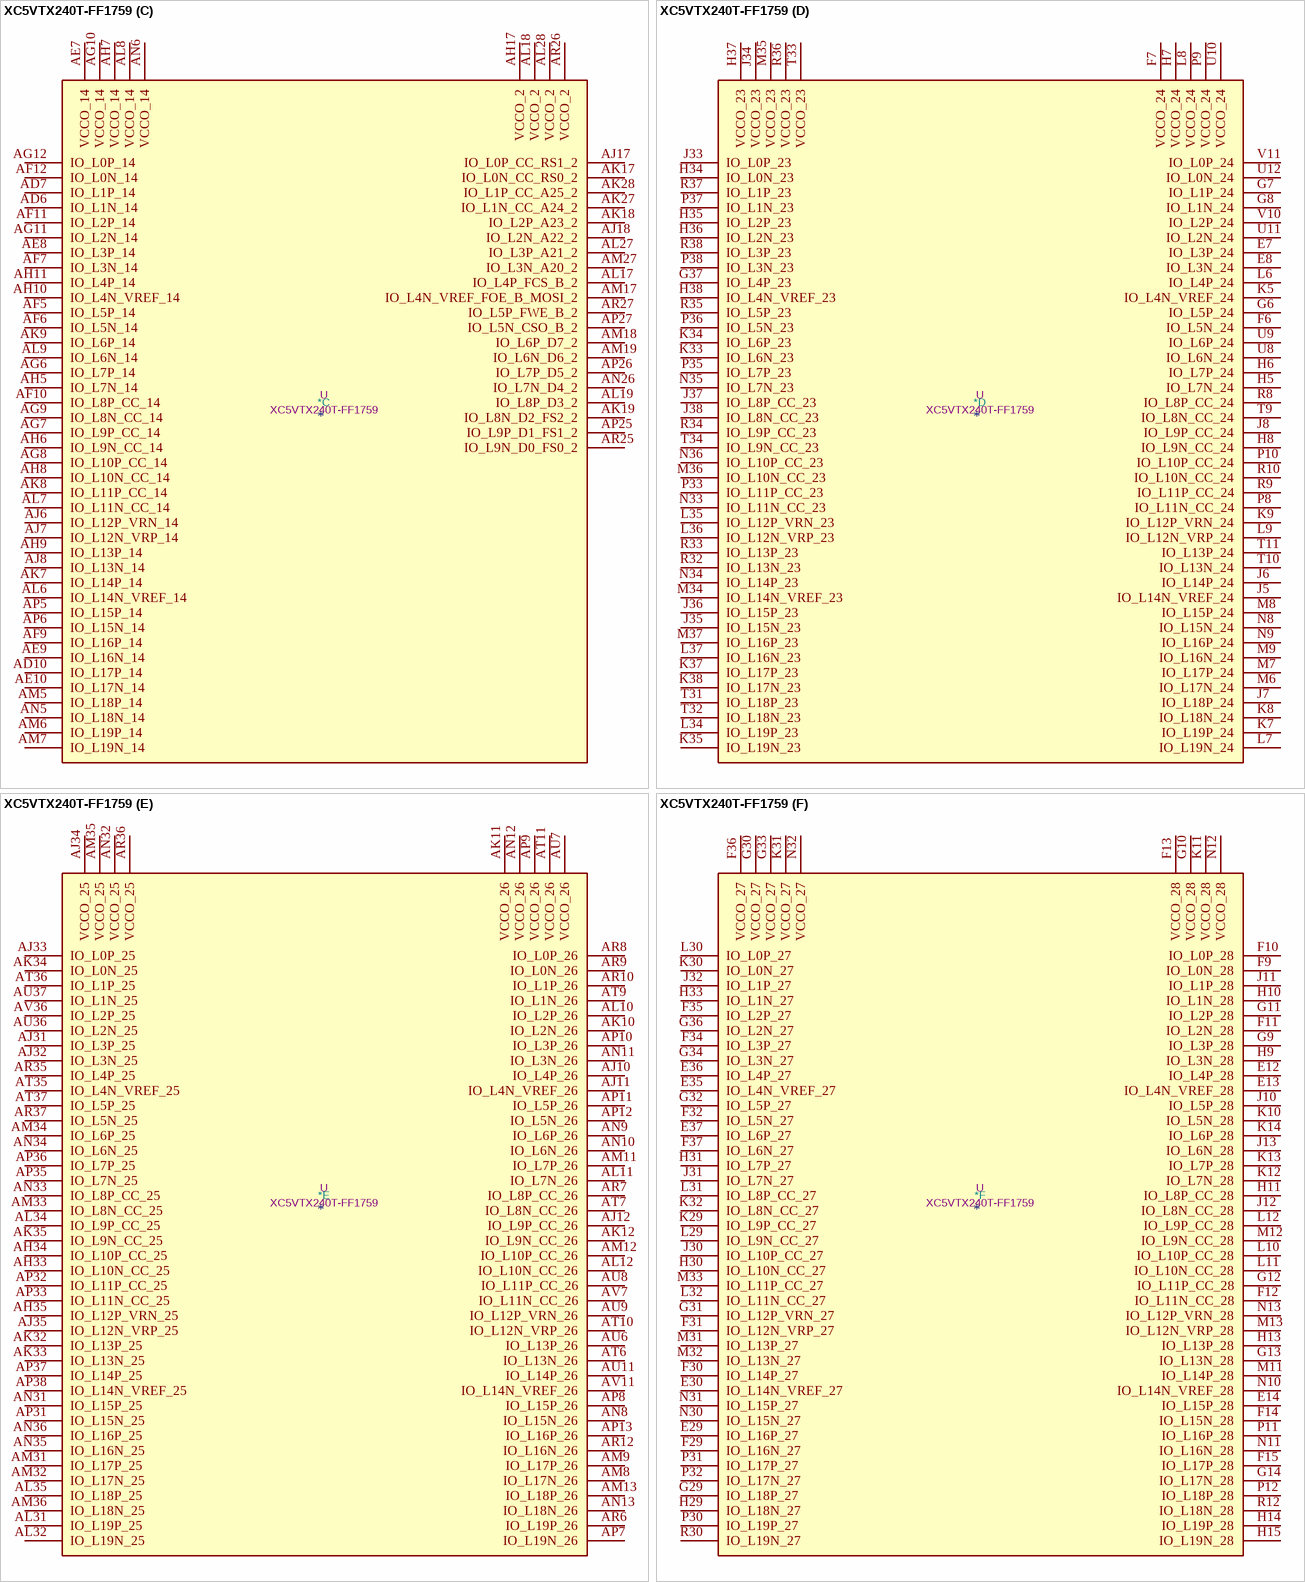
[diagram p134: symbol XC5VTX240T-FF1759]

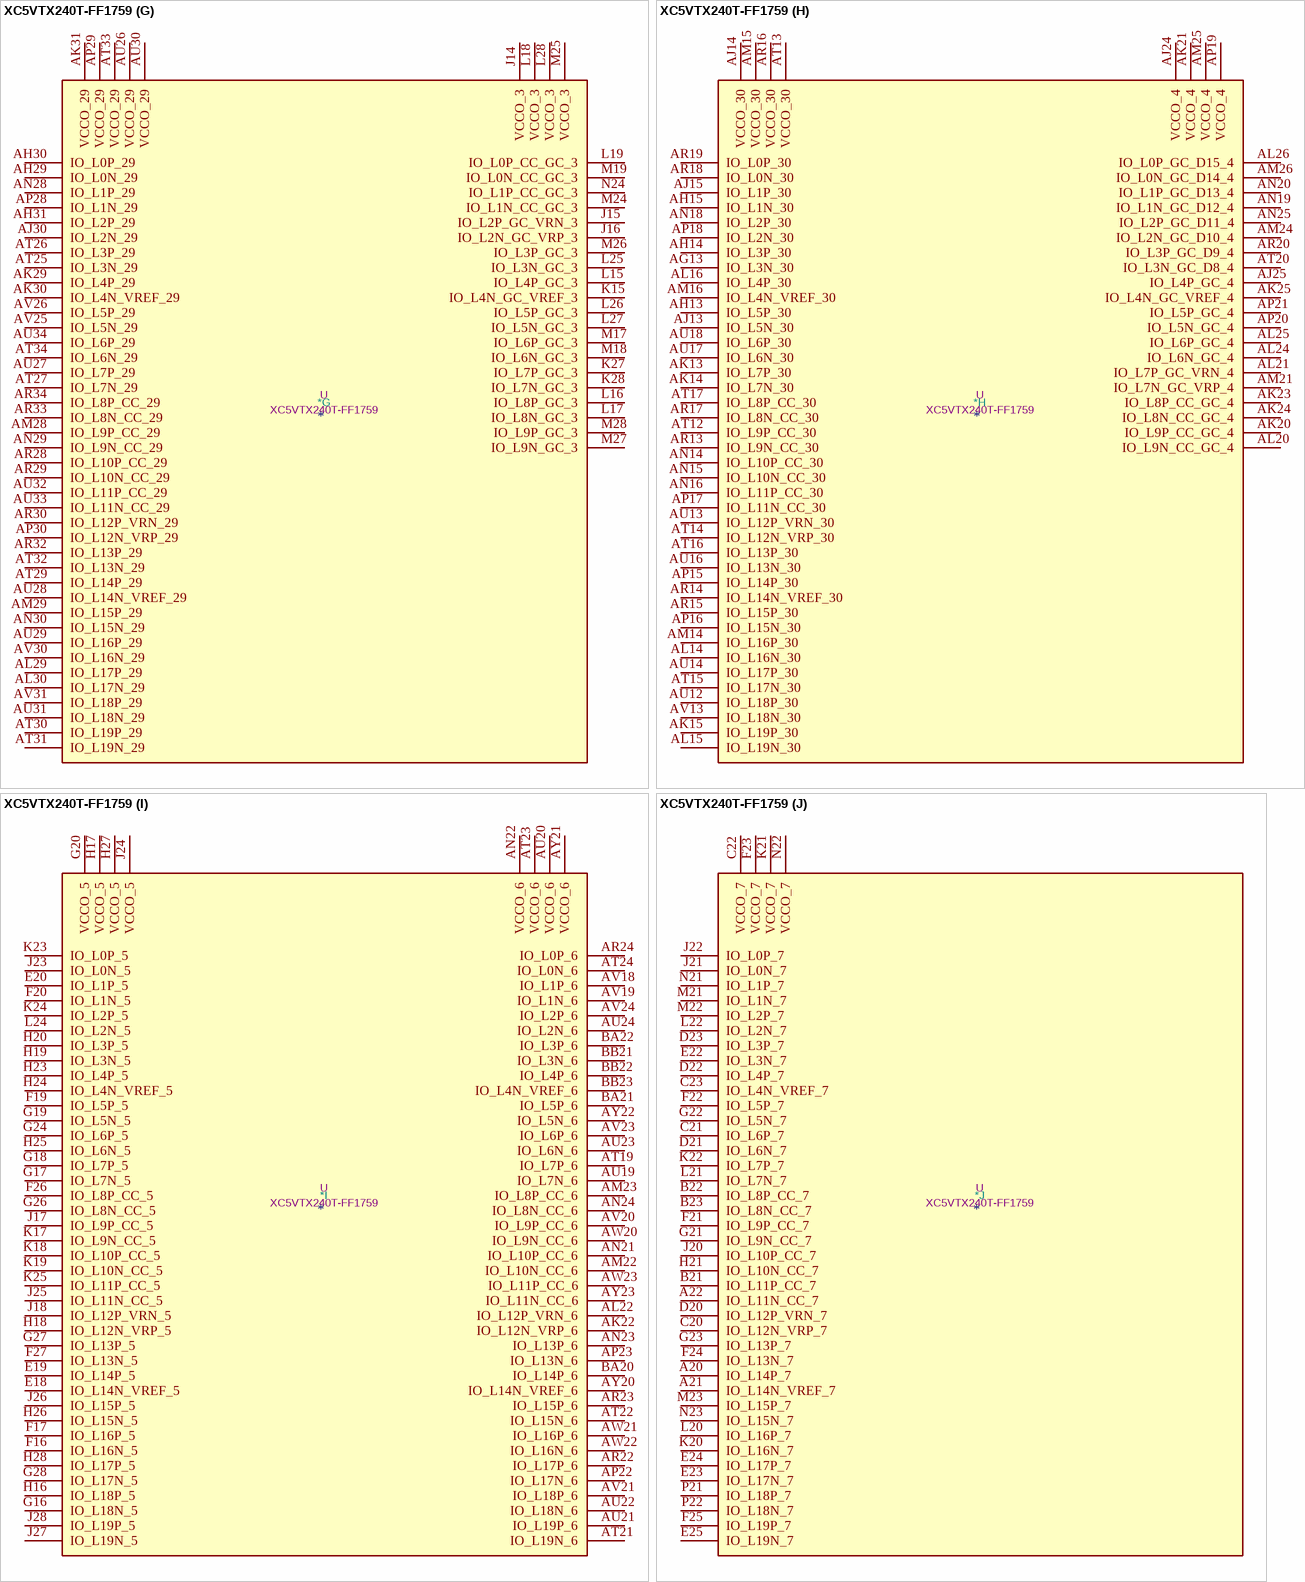
[diagram p135: symbol XC5VTX240T-FF1759]

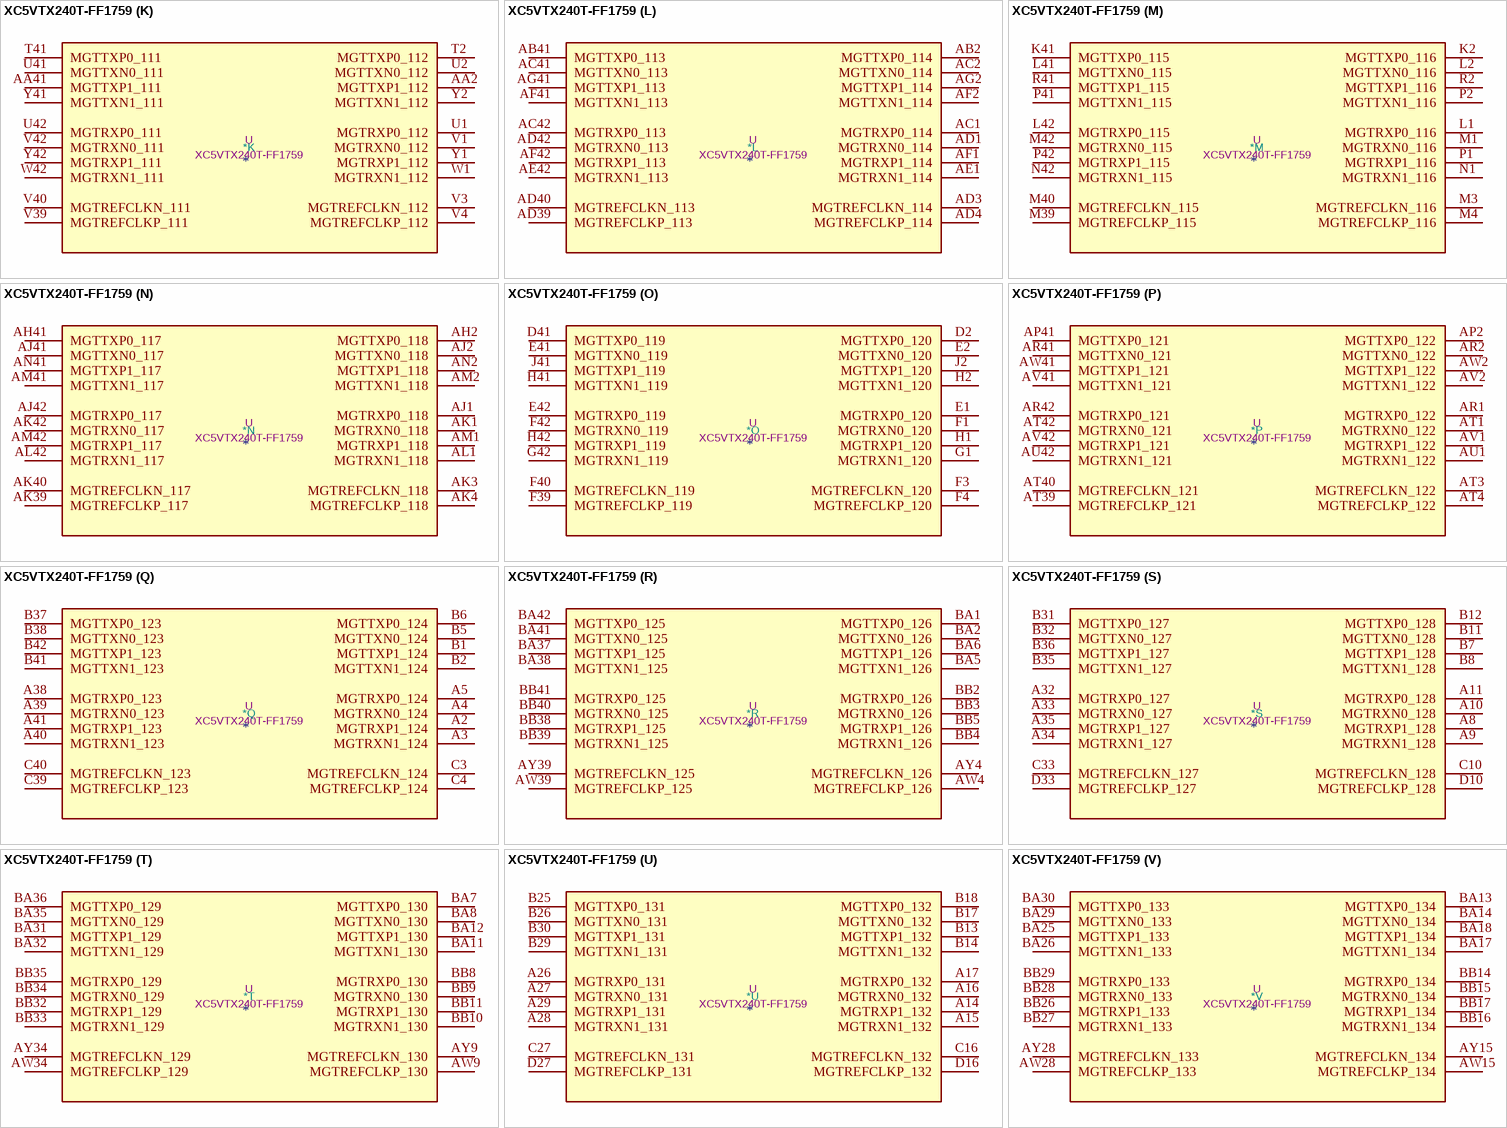
[diagram p136: symbol XC5VTX240T-FF1759]

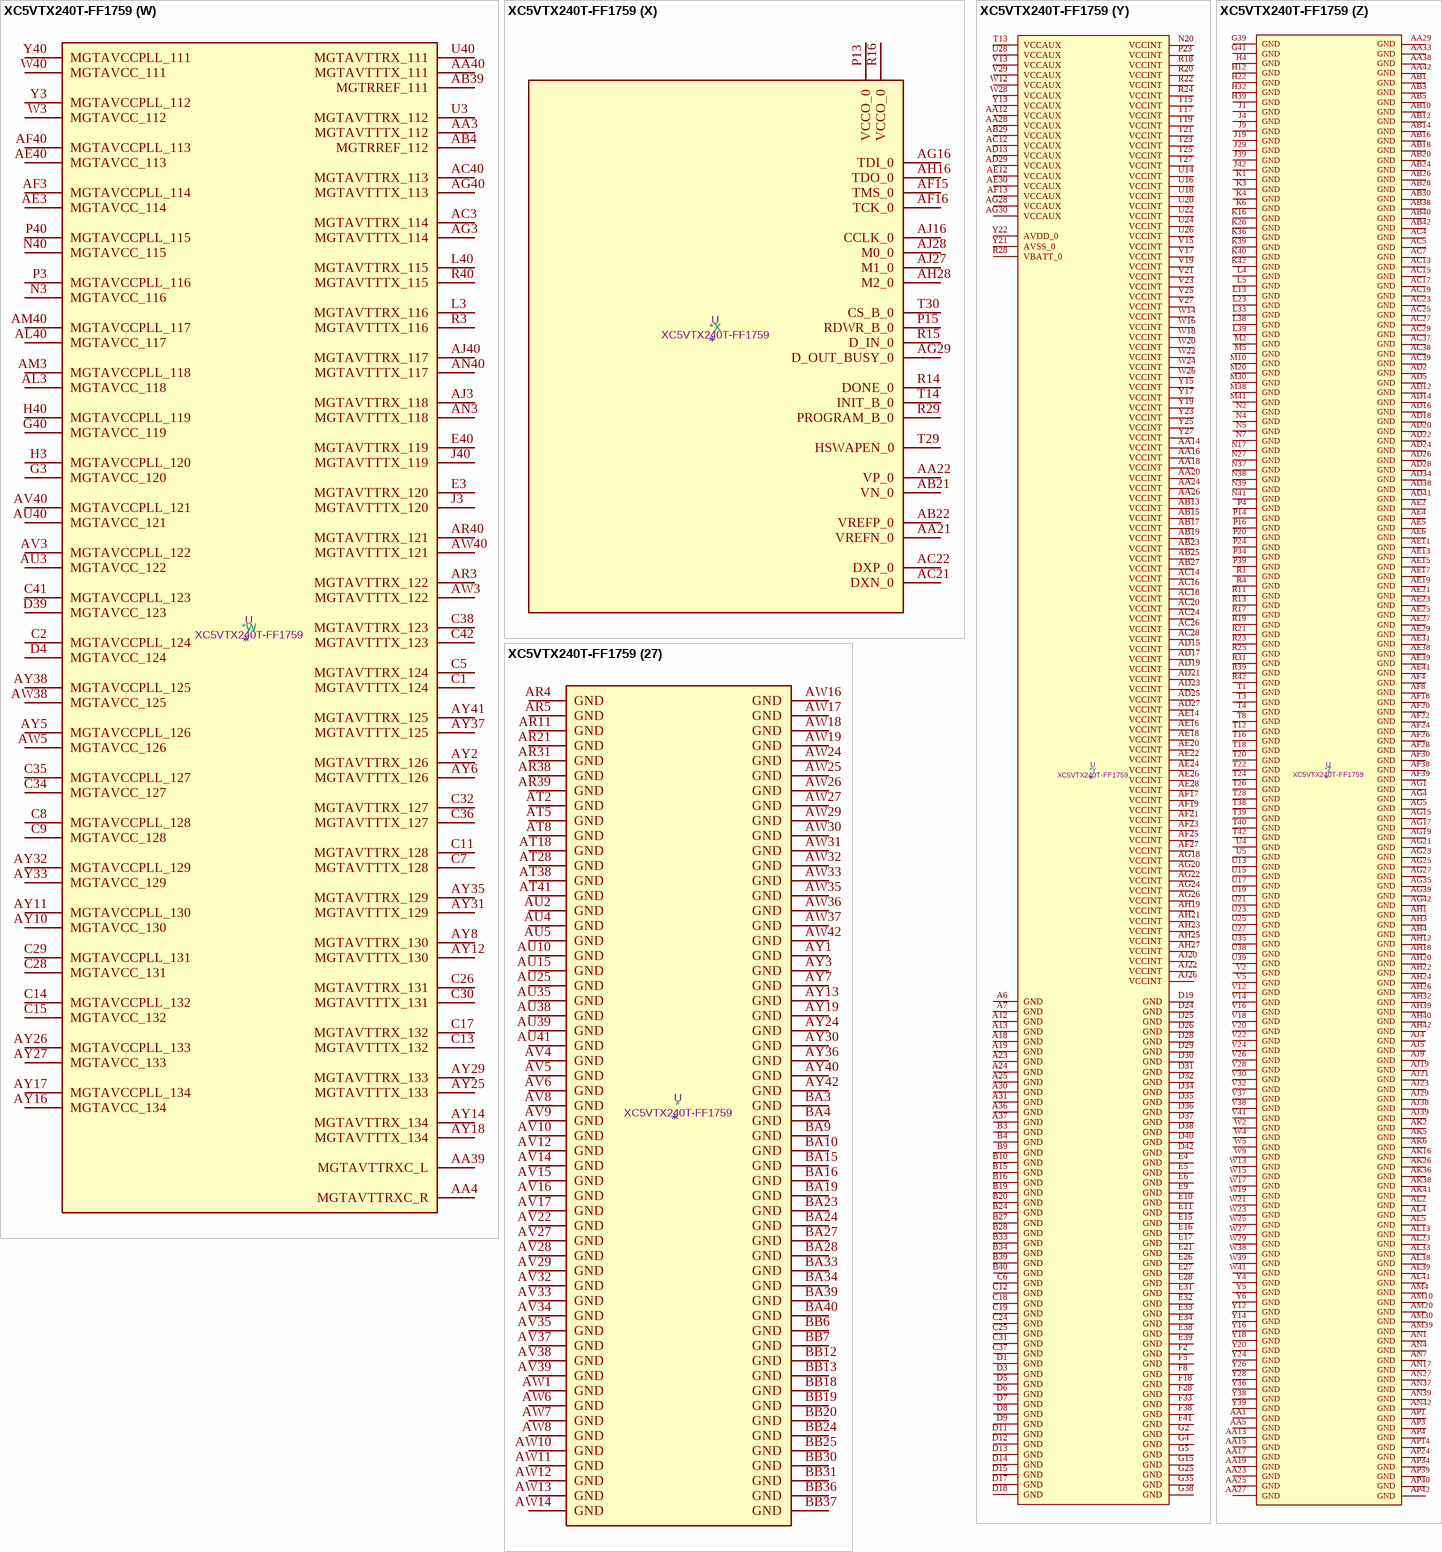
[diagram p137: symbol XC5VTX240T-FF1759]